# Altium schematic symbol library MMZ1608Q102BTA00.SchLib: 2 symbols
Pins are listed as number, name and electrical type; pins without a type are passive.

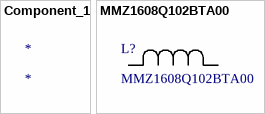
[diagram p0: symbols Component_1 to MMZ1608Q102BTA00]

## Component_1
designator *

## MMZ1608Q102BTA00
designator L?
No Description Available; Mfr_Name: TDK; Type: DEV; Copyright: Copyright (C) 2023 Ultra Librarian. All rights reserved.; Manufacturer_Part_Number: MMZ1608Q102BTA00; Digi-Key_Part_Number_1: 445-8680-1-ND; Digi-Key_Part_Number_2: 445-8680-2-ND; Digi-Key_Part_Number_3: 445-8680-6-ND; RefDes: RefDes
footprint IND_1608_TDK
pins: 1, 2